# EAGLE library part G2RE (library relay)
RELAY 1 x switch, high current, Omron
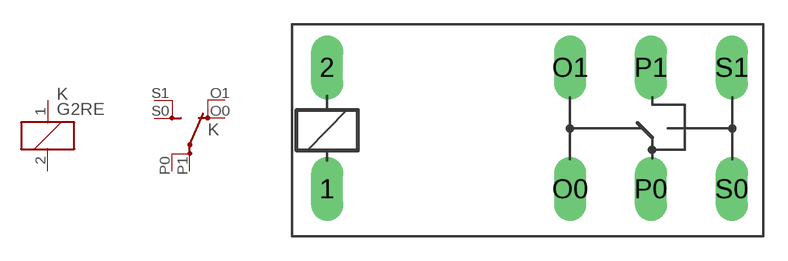
[diagram p54: symbol with the pads of G2RE; footprint G2RE]

Designator prefix K; gates 1=K 2=UD

## G2RE (OC_FARNELL: unknown; OC_NEWARK: unknown)  [G2RE]
1  1:1  pas
2  1:2  pas
O0  2:O  pas
O1  2:O  pas
P0  2:P  pas
P1  2:P  pas
S0  2:S  pas
S1  2:S  pas

## Footprint G2RE (pad centres in mm)
RELAY 1 x switch, high current, Omron
drill 1.321 long: 1 -2.54,-3.683; 2 -2.54,3.81; O0 12.471,-3.683; O1 12.471,3.81; P0 17.45,-3.683; P1 17.45,3.81; S0 22.454,-3.683; S1 22.454,3.81